# EAGLE library part LMR14006 (library X893)
Datasheet <http://www.ti.com/product/LMR14006/description> Page <http://www.ti.com/lit/ds/symlink/lmr14006.pdf>
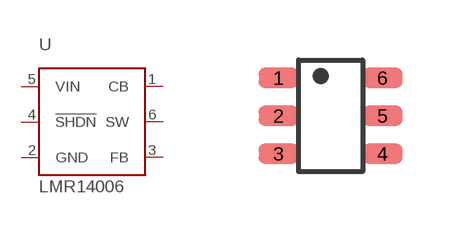
[diagram p226: symbol with the pads of SOT23-6; footprint SOT23-6]

Designator prefix U

## LMR14006  [SOT23-6]
1  CB
2  GND  pwr
3  FB
4  !SHDN
5  VIN
6  SW

## Footprint SOT23-6 (pad centres in mm)
smd 1 x 0.5: 1 -1.3,0.95; 2 -1.3,0; 3 -1.3,-0.95; 4 1.3,-0.95; 5 1.3,0; 6 1.3,0.95